# Altium footprint library Connector-ScrewTerminal.PcbLib: 1 footprints
Each footprint in its own frame and in the unit in brackets; x right, y up, seen from the top. Pads: shape width x height; smd on the part's side, far side on the other; paste and mask are expansions set on the pad; w line width, h text height; cw(c..) or ccw(c..) is an arc to the next point about the centre after c.
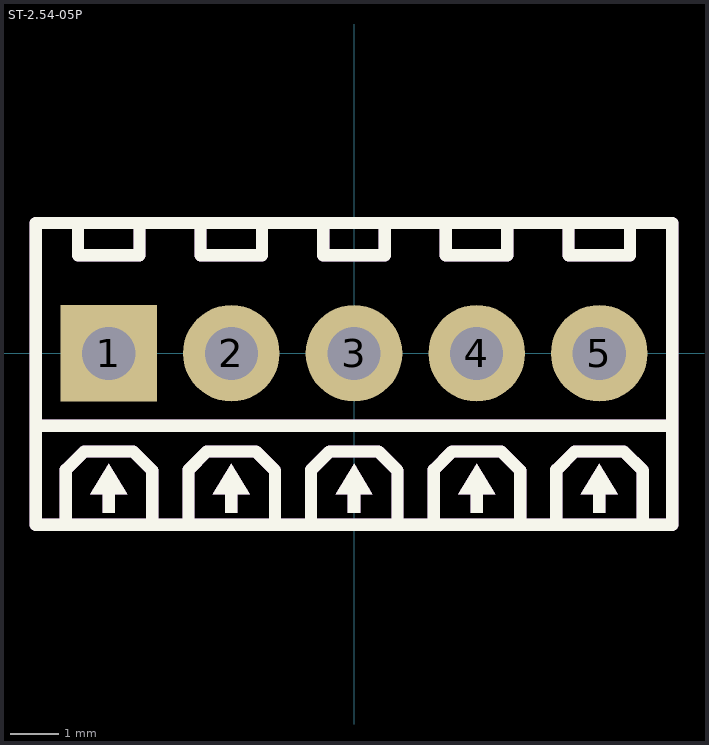
[diagram p0: the footprint, top view; thin cyan lines are the x and y axes]

## ST-2.54-05P [mm] "螺钉式接线端子 2.54 1X5 绿色 直插"
pads (5):
  rect 2x2 hole 1.1: 1(-5.08,0)
  round 2 hole 1.1: 2(-2.54,0) 3(0,0) 4(2.54,0) 5(5.08,0)
Top Overlay:
  region: 4.699,-2.921 5.461,-2.921 5.08,-2.286
  region: 4.953,-2.921 4.953,-3.302 5.207,-3.302 5.207,-2.921
  region: 2.413,-2.921 2.413,-3.302 2.667,-3.302 2.667,-2.921
  region: 2.159,-2.921 2.921,-2.921 2.54,-2.286
  region: -0.127,-2.921 -0.127,-3.302 0.127,-3.302 0.127,-2.921
  region: -0.381,-2.921 0.381,-2.921 0,-2.286
  region: -2.667,-2.921 -2.667,-3.302 -2.413,-3.302 -2.413,-2.921
  region: -2.921,-2.921 -2.159,-2.921 -2.54,-2.286
  region: -5.207,-2.921 -5.207,-3.302 -4.953,-3.302 -4.953,-2.921
  region: -5.461,-2.921 -4.699,-2.921 -5.08,-2.286
  lines w0.254: -6.59,-1.502 6.59,-1.499 ; -5.969,-3.556 -5.969,-2.413 -5.588,-2.032 -4.572,-2.032 -4.178,-2.426 -4.178,-3.55 ; -5.717,2.7 -5.717,2.032 -4.445,2.032 -4.445,2.7 ; -3.429,-3.556 -3.429,-2.413 -3.048,-2.032 -2.032,-2.032 -1.638,-2.426 -1.638,-3.55 ; -3.177,2.7 -3.177,2.032 -1.905,2.032 -1.905,2.7 ; -0.889,-3.556 -0.889,-2.413 -0.508,-2.032 0.508,-2.032 0.902,-2.426 0.902,-3.55 ; -0.637,2.7 -0.637,2.032 0.635,2.032 0.635,2.7 ; 1.651,-3.556 1.651,-2.413 2.032,-2.032 3.048,-2.032 3.442,-2.426 3.442,-3.55 ; 1.903,2.7 1.903,2.032 3.175,2.032 3.175,2.7 ; 4.191,-3.556 4.191,-2.413 4.572,-2.032 5.588,-2.032 5.982,-2.426 5.982,-3.55 ; 4.443,2.7 4.443,2.032 5.715,2.032 5.715,2.7 ; -6.59,-3.55 6.59,-3.55 6.59,2.7 -6.59,2.7 -6.59,-3.55
Top Value:
  text "'.Comment'" at -6.554,-0.672 h3
Top Designator:
  text "'.Designator'" at -8.58,-0.628 h3
Top Assembly (Mech20):
  region: 4.699,-2.921 5.461,-2.921 5.08,-2.286
  region: 4.953,-2.921 4.953,-3.302 5.207,-3.302 5.207,-2.921
  region: 2.413,-2.921 2.413,-3.302 2.667,-3.302 2.667,-2.921
  region: 2.159,-2.921 2.921,-2.921 2.54,-2.286
  region: -0.127,-2.921 -0.127,-3.302 0.127,-3.302 0.127,-2.921
  region: -0.381,-2.921 0.381,-2.921 0,-2.286
  region: -2.667,-2.921 -2.667,-3.302 -2.413,-3.302 -2.413,-2.921
  region: -2.921,-2.921 -2.159,-2.921 -2.54,-2.286
  region: -5.207,-2.921 -5.207,-3.302 -4.953,-3.302 -4.953,-2.921
  region: -5.461,-2.921 -4.699,-2.921 -5.08,-2.286
  lines w0.254: -6.59,-1.502 6.59,-1.499 ; -5.969,-3.556 -5.969,-2.413 -5.588,-2.032 -4.572,-2.032 -4.178,-2.426 -4.178,-3.55 ; -5.717,2.7 -5.717,2.032 -4.445,2.032 -4.445,2.7 ; -3.429,-3.556 -3.429,-2.413 -3.048,-2.032 -2.032,-2.032 -1.638,-2.426 -1.638,-3.55 ; -3.177,2.7 -3.177,2.032 -1.905,2.032 -1.905,2.7 ; -0.889,-3.556 -0.889,-2.413 -0.508,-2.032 0.508,-2.032 0.902,-2.426 0.902,-3.55 ; -0.637,2.7 -0.637,2.032 0.635,2.032 0.635,2.7 ; 1.651,-3.556 1.651,-2.413 2.032,-2.032 3.048,-2.032 3.442,-2.426 3.442,-3.55 ; 1.903,2.7 1.903,2.032 3.175,2.032 3.175,2.7 ; 4.191,-3.556 4.191,-2.413 4.572,-2.032 5.588,-2.032 5.982,-2.426 5.982,-3.55 ; 4.443,2.7 4.443,2.032 5.715,2.032 5.715,2.7 ; -6.59,-3.55 6.59,-3.55 6.59,2.7 -6.59,2.7 -6.59,-3.55
3D body "MX128-2.54-05P-GN01-Cu-Y-A.step": height 8.5, standoff -2.6, extent -6.6,-3.525 6.59,2.725